# Altium footprint library R SMD.PcbLib: 31 footprints (part 2 of 2)
Each footprint in its own frame and in the unit in brackets; x right, y up, seen from the top. Pads: shape width x height; smd on the part's side, far side on the other; paste and mask are expansions set on the pad; w line width, h text height; cw(c..) or ccw(c..) is an arc to the next point about the centre after c.
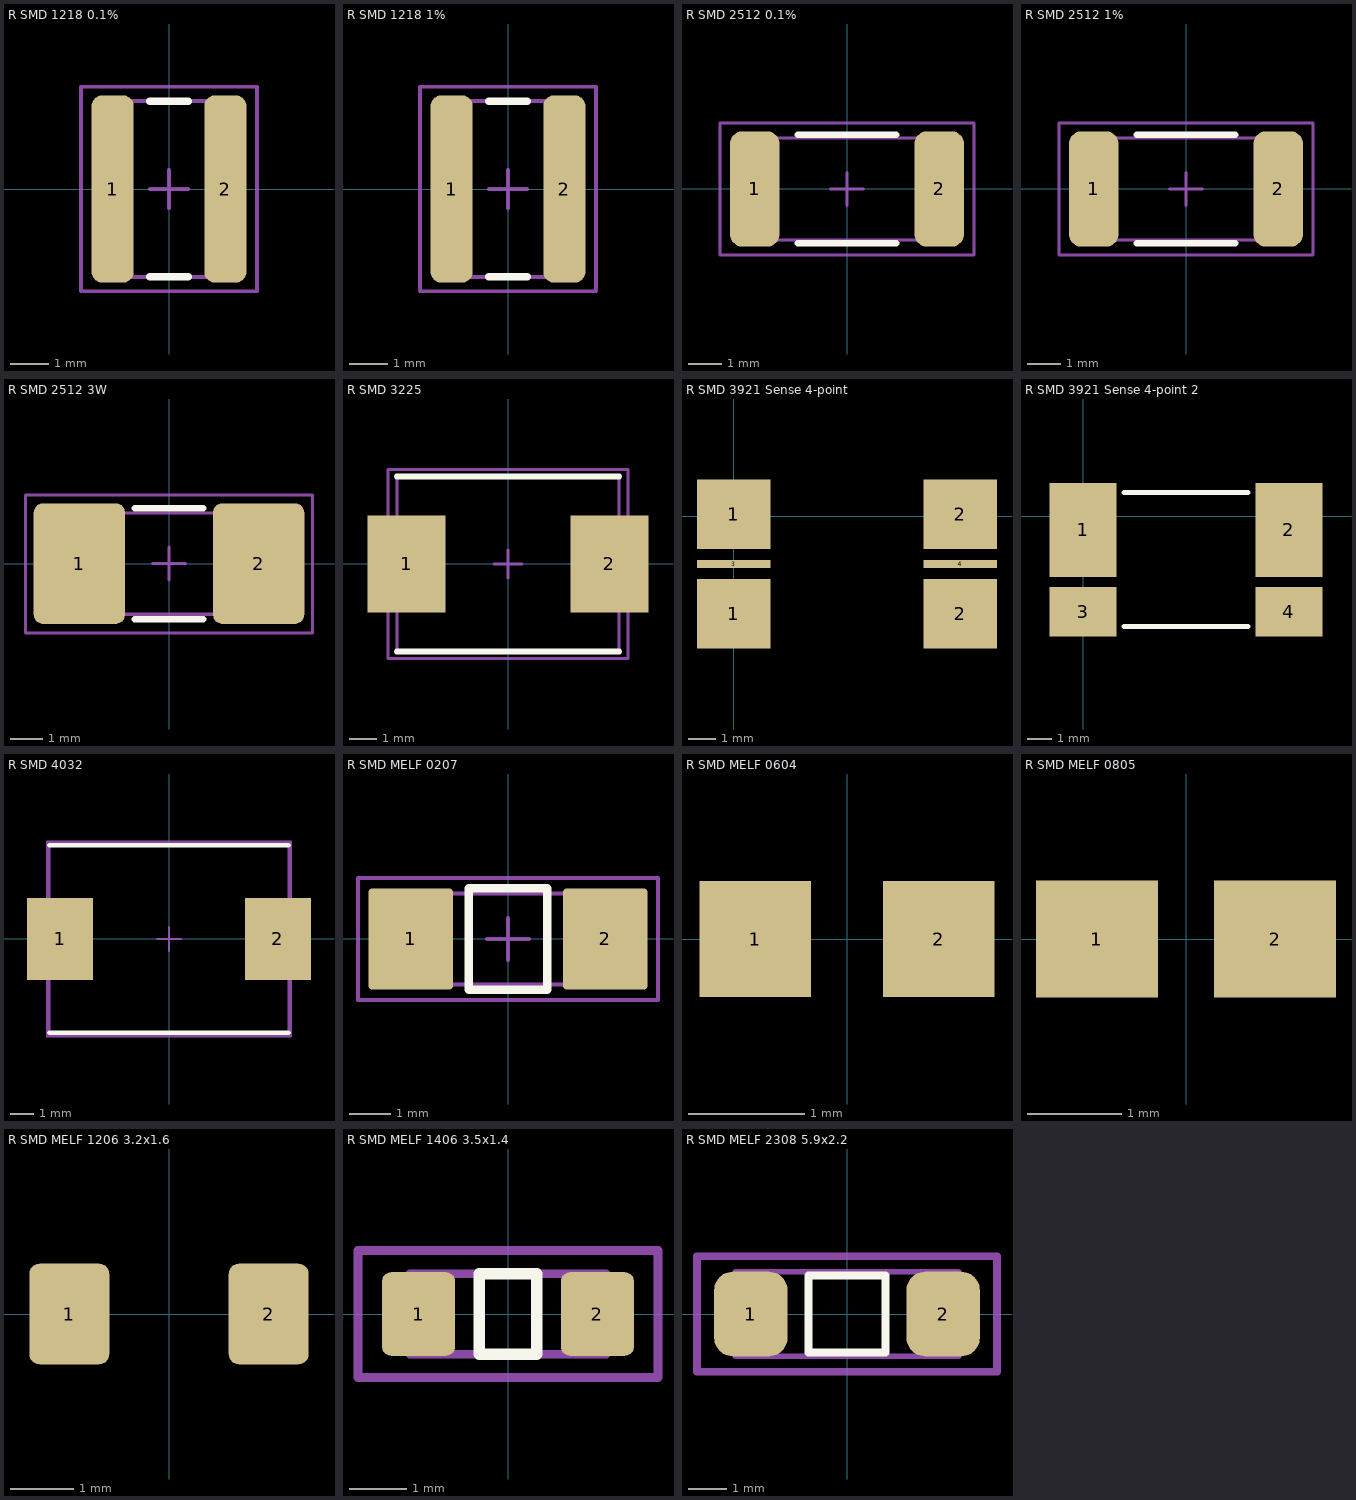
[diagram p1: the footprints below, top view; thin cyan lines are the x and y axes]

## R SMD 1218 0.1% [mm] "R SMD 1218 0.1%"
pads (2):
  rrect50% 1.1x4.9 smd: 1(-1.475,0) 2(1.475,0)
Top Overlay:
  lines w0.2: -0.5,-2.3 0.5,-2.3 ; -0.5,2.3 0.5,2.3
Mechanical 13:
  lines w0.1: -1.6,-2.3 -1.6,2.3 1.6,2.3 1.6,-2.3 -1.6,-2.3
Mechanical 15:
  lines w0.1: -0.5,0 0.5,0 ; 0,-0.5 0,0.5 ; -2.3,-2.675 -2.3,2.675 2.3,2.675 2.3,-2.675 -2.3,-2.675
3D body: height 0.58, standoff 0.02, extent -1.6,-2.305 1.6,2.305

## R SMD 1218 1% [mm] "R SMD 1218 1%"
pads (2):
  rrect50% 1.1x4.9 smd: 1(-1.475,0) 2(1.475,0)
Top Overlay:
  lines w0.2: -0.5,-2.3 0.5,-2.3 ; -0.5,2.3 0.5,2.3
Mechanical 13:
  lines w0.1: -1.6,-2.3 1.6,-2.3 1.6,2.3 -1.6,2.3 -1.6,-2.3
Mechanical 15:
  lines w0.1: -0.5,0 0.5,0 ; 0,-0.5 0,0.5 ; -2.3,-2.675 2.3,-2.675 2.3,2.675 -2.3,2.675 -2.3,-2.675
3D body: height 0.58, standoff 0.02, extent -1.6,-2.305 1.6,2.305

## R SMD 2512 0.1% [mm] "R SMD 2512 0.1%"
height 2
pads (2):
  rrect50% 1.5x3.5 smd: 1(-2.8,0) 2(2.8,0)
Top Overlay:
  lines w0.2: -1.5,-1.65 1.5,-1.65 ; -1.5,1.65 1.5,1.65
Mechanical 13:
  lines w0.1: -3.175,-1.55 -3.175,1.55 3.175,1.55 3.175,-1.55 -3.175,-1.55
Mechanical 15:
  lines w0.1: -0.5,0 0.5,0 ; 0,-0.5 0,0.5 ; -3.85,-2 -3.85,2 3.85,2 3.85,-2 -3.85,-2
3D body: height 0.6, standoff 0, extent -3.2,-1.6 3.2,1.6

## R SMD 2512 1% [mm] "R SMD 2512 1%"
height 2
pads (2):
  rrect50% 1.5x3.5 smd: 1(-2.8,0) 2(2.8,0)
Top Overlay:
  lines w0.2: -1.5,-1.65 1.5,-1.65 ; -1.5,1.65 1.5,1.65
Mechanical 13:
  lines w0.1: -3.175,-1.55 3.175,-1.55 3.175,1.55 -3.175,1.55 -3.175,-1.55
Mechanical 15:
  lines w0.1: -0.5,0 0.5,0 ; 0,-0.5 0,0.5 ; -3.85,-2 3.85,-2 3.85,2 -3.85,2 -3.85,-2
3D body: height 0.6, standoff 0, extent -3.2,-1.6 3.2,1.6

## R SMD 2512 3W [mm] "R SMD 2512 3W"
height 1.1
pads (2):
  rrect20% 2.8x3.7 smd: 1(-2.75,0) 2(2.75,0)
Top Overlay:
  lines w0.2: -1.05,-1.7 1.05,-1.7 ; -1.05,1.7 1.05,1.7
Mechanical 13:
  lines w0.1: -3.175,-1.55 -3.175,1.55 3.175,1.55 3.175,-1.55 -3.175,-1.55
Mechanical 15:
  lines w0.1: -0.5,0 0.5,0 ; 0,-0.5 0,0.5 ; -4.4,-2.125 -4.4,2.1 4.4,2.1 4.4,-2.125 -4.4,-2.125
3D body: height 0.6, standoff 0, extent -3.2,-1.6 3.2,1.6

## R SMD 3225 [mm] "Chip 8.0x6.3"
height 4.5
pads (2):
  rect 2.8x3.5 smd: 1(-3.65,0) 2(3.65,0)
Top Overlay:
  lines w0.2: -4,-3.15 4,-3.15 ; -4,3.15 4,3.15
Mechanical 13:
  lines w0.1: -4,-3.15 4,-3.15 4,3.15 -4,3.15 -4,-3.15
Mechanical 15:
  lines w0.1: -0.5,0 0.5,0 ; 0,-0.5 0,0.5 ; -4.325,-3.4 4.325,-3.4 4.325,3.4 -4.325,3.4 -4.325,-3.4
3D body: height 4.5, standoff 0, extent -4,-3.15 4,3.15

## R SMD 3921 Sense 4-point [mm]
pads (6):
  rect 2.7x2.55 smd: 1(0,-3.575) 1(0,0.075) 2(8.3,-3.575) 2(8.3,0.075)
  rect 2.7x0.3 smd: 3(0,-1.75) 4(8.3,-1.75)
3D body: height 2, standoff 0, extent -0.85,-4.35 9.15,0.85

## R SMD 3921 Sense 4-point 2 [mm]
pads (4):
  rect 2.7x3.8 smd: 1(0,-0.55) 2(8.3,-0.55)
  rect 2.7x2 smd: 3(0,-3.85) 4(8.3,-3.85)
Top Overlay:
  lines w0.2: 1.65,-4.45 6.65,-4.45 ; 1.65,0.95 6.65,0.95
3D body: height 2, standoff 0, extent -0.85,-4.35 9.15,0.85

## R SMD 4032 [mm] "Chip 10.2x8.0"
height 4.5
pads (2):
  rect 2.8x3.5 smd: 1(-4.65,0) 2(4.65,0)
Top Overlay:
  lines w0.2: -5.1,-4 5.1,-4 ; -5.1,4 5.1,4
Mechanical 13:
  lines w0.1: -5.1,-4 -5.1,4 5.1,4 5.1,-4 -5.1,-4
Mechanical 15:
  lines w0.1: -0.5,0 0.5,0 ; 0,-0.5 0,0.5 ; -5.2,-4.15 -5.2,4.15 5.2,4.15 5.2,-4.15 -5.2,-4.15
3D body: height 4.5, standoff 0, extent -5.1,-4 5.1,4

## R SMD MELF 0207 [mm] "MELF Resistor, 2-Leads, Body 5,8x2,2mm, IPC Medium Density"
height 2.2
pads (2):
  rrect10% 2.05x2.45 smd: 1(-2.35,0) 2(2.35,0)
Top Overlay:
  lines w0.2: -0.95,-1.225 0.95,-1.225 0.95,1.225 -0.95,1.225 -0.95,-1.225
Mechanical 13:
  lines w0.1: -2.9,-1.1 -2.9,1.1 2.9,1.1 2.9,-1.1 -2.9,-1.1
Mechanical 15:
  lines w0.1: -0.5,0 0.5,0 ; 0,-0.5 0,0.5 ; -3.625,-1.475 -3.625,1.475 3.625,1.475 3.625,-1.475 -3.625,-1.475
3D body: height 2.2, standoff 0, extent -2.65,-1.1 2.65,1.1

## R SMD MELF 0604 [mm] "R SMD MELF 0604"
height 1
pads (2):
  rect 0.96x1 smd: 1(-0.79,0) 2(0.79,0)
3D body: height 1, standoff 0, extent -0.8,-0.5 0.8,0.5

## R SMD MELF 0805 [mm] "R SMD MELF 0805"
height 1.25
pads (2):
  rect 1.3x1.25 smd: 1(-0.95,0) 2(0.95,0)
3D body: height 1.25, standoff 0, extent -1,-0.625 1,0.625

## R SMD MELF 1206 3.2x1.6 [mm] "R SMD MELF 1206"
height 3.2
pads (2):
  rrect25% 1.27x1.6 smd: 1(-1.585,0) 2(1.585,0)
3D body: height 1.6, standoff 0, extent -1.6,-0.8 1.6,0.8

## R SMD MELF 1406 3.5x1.4 [mm] "R SMD MELF 1406"
height 1.45
pads (2):
  rrect25% 1.27x1.45 smd: 1(-1.55,0) 2(1.55,0)
Top Overlay:
  lines w0.2: -0.5,-0.7 -0.5,0.7 0.5,0.7 0.5,-0.7 -0.5,-0.7
Mechanical 13:
  lines w0.15: -1.7,-0.7 1.7,-0.7 1.7,0.7 -1.7,0.7 -1.7,-0.7
Mechanical 15:
  lines w0.15: -2.6,-1.1 -2.6,1.1 2.6,1.1 2.6,-1.1 -2.6,-1.1
3D body: height 1.45, standoff 0, extent -1.75,-0.725 1.75,0.725

## R SMD MELF 2308 5.9x2.2 [mm] "R SMD MELF 2308"
height 2.2
pads (2):
  rrect50% 1.91x2.2 smd: 1(-2.5,0) 2(2.5,0)
Top Overlay:
  lines w0.2: -1,-1 -1,1 1,1 1,-1 -1,-1
Mechanical 13:
  lines w0.15: -2.9,-1.1 2.9,-1.1 2.9,1.1 -2.9,1.1 -2.9,-1.1
Mechanical 15:
  lines w0.2: -3.9,-1.5 3.9,-1.5 3.9,1.5 -3.9,1.5 -3.9,-1.5
3D body: height 2.2, standoff 0, extent -2.95,-1.1 2.95,1.1